# Altium footprint library SMD50_SPE_LEON-Gx.PcbLib: 1 footprints
Each footprint in its own frame and in the unit in brackets; x right, y up, seen from the top. Pads: shape width x height; smd on the part's side, far side on the other; paste and mask are expansions set on the pad; w line width, h text height; cw(c..) or ccw(c..) is an arc to the next point about the centre after c.
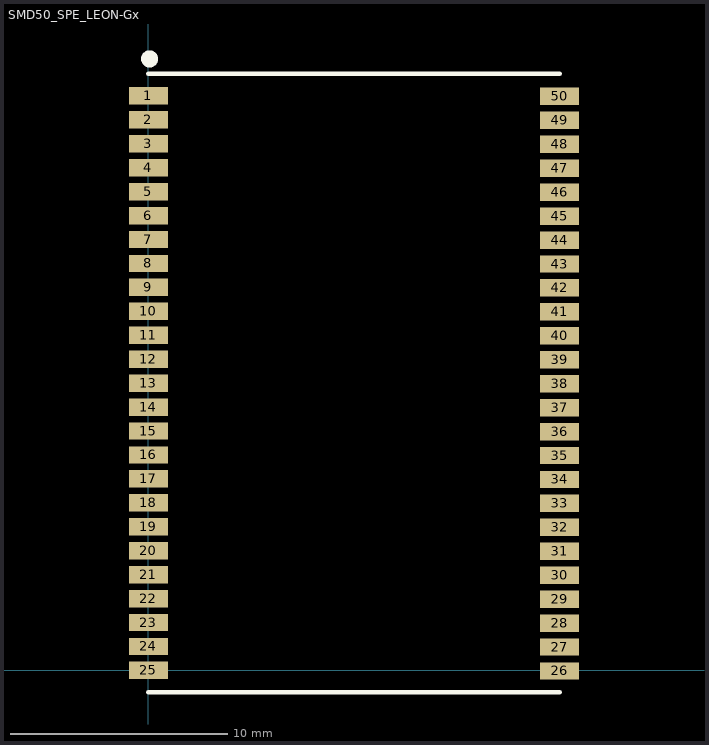
[diagram p0: the footprint, top view; thin cyan lines are the x and y axes]

## SMD50_SPE_LEON-Gx [mm]
height 3
pads (50):
  rect 1.8x0.8 smd: 1(0,26.4) 2(0,25.3) 3(0,24.2) 4(0,23.1) 5(0,22) 6(0,20.9) 7(0,19.8) 8(0,18.7) 9(0,17.6) 10(0,16.5) 11(0,15.4) 12(0,14.3) 13(0,13.2) 14(0,12.1) 15(0,11) 16(0,9.9) 17(0,8.8) 18(0,7.7) 19(0,6.6) 20(0,5.5) 21(0,4.4) 22(0,3.3) 23(0,2.2) 24(0,1.1) 25(0,0) 26(18.9,-0.025) 27(18.9,1.075) 28(18.9,2.175) 29(18.9,3.275) 30(18.9,4.375) 31(18.9,5.475) 32(18.9,6.575) 33(18.9,7.675) 34(18.9,8.775) 35(18.9,9.875) 36(18.9,10.975) 37(18.9,12.075) 38(18.9,13.175) 39(18.9,14.275) 40(18.9,15.375) 41(18.9,16.475) 42(18.9,17.575) 43(18.9,18.675) 44(18.9,19.775) 45(18.9,20.875) 46(18.9,21.975) 47(18.9,23.075) 48(18.9,24.175) 49(18.9,25.275) 50(18.9,26.375)
Top Overlay:
  circle w0.5: c0.059,28.1 r0.141
  lines w0.2: 0,-1 18.9,-1 ; 0,27.416 18.9,27.416
3D body: height 3.5, standoff 0, extent 0,-1 18.9,27.5